# Altium schematic symbol library 0805 33pF 50V.Schlib: 1 symbol
Pins are listed as number, name and electrical type; pins without a type are passive.

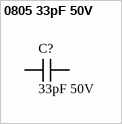
[diagram p0: symbol 0805 33pF 50V]

## 0805 33pF 50V
designator C?, comment value 33pF 50V  (hidden comment: Capacitor)
33pF ±5% 50V C0G 0805 Multilayer Ceramic Capacitors MLCC - SMD/SMT RoHS; LCSC Part #: C1814
footprint CAP 0805_2012 (Chip Capacitor, 2-Leads, Body 2.00x1.20mm, IPC Medium Density)
pins: 1, 2